# EAGLE library part 282837-7 (library 282837-7)
Fixed Terminal Blocks 5.08MM PCB MOUNT 7P Source: Datasheet <https://componentsearchengine.com/Datasheets/1/282837-7.pdf>
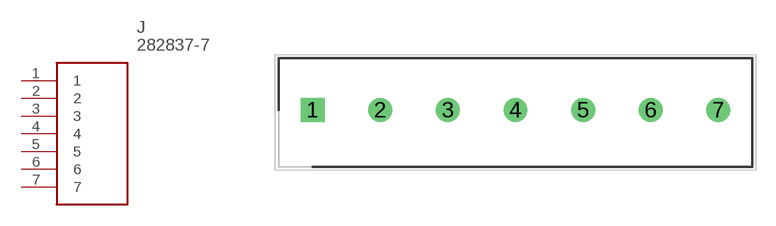
[diagram p0: symbol with the pads of SHDR7W100P0X508_1X7_3556X820X1; footprint SHDR7W100P0X508_1X7_3556X820X1]

Designator prefix J

## 282837-7 (Description: Fixed Terminal Blocks 5.08MM PCB MOUNT 7P; Height: 10mm; Manufacturer_Name: TE Connectivity; Manufacturer_Part_Number: 282837-7; Mouser_Part_Number: 571-2828377; Mouser_Price-Stock: https://www.mouser.co.uk/ProductDetail/TE-Connectivity/282837-7?qs=A%252Bip%252BNCYi6OpGcunckL3uQ%3D%3D)  [SHDR7W100P0X508_1X7_3556X820X1]
1  1
2  2
3  3
4  4
5  5
6  6
7  7

## Footprint SHDR7W100P0X508_1X7_3556X820X1 (pad centres in mm)
282837-7
drill 1.2 pad 1.8 square: 1 0,0
drill 1.2 pad 1.8: 2 5.08,0; 3 10.16,0; 4 15.24,0; 5 20.32,0; 6 25.4,0; 7 30.48,0